# Altium footprint library ReboostV2.PcbLib: 10 footprints
Each footprint in its own frame and in the unit in brackets; x right, y up, seen from the top. Pads: shape width x height; smd on the part's side, far side on the other; paste and mask are expansions set on the pad; w line width, h text height; cw(c..) or ccw(c..) is an arc to the next point about the centre after c.
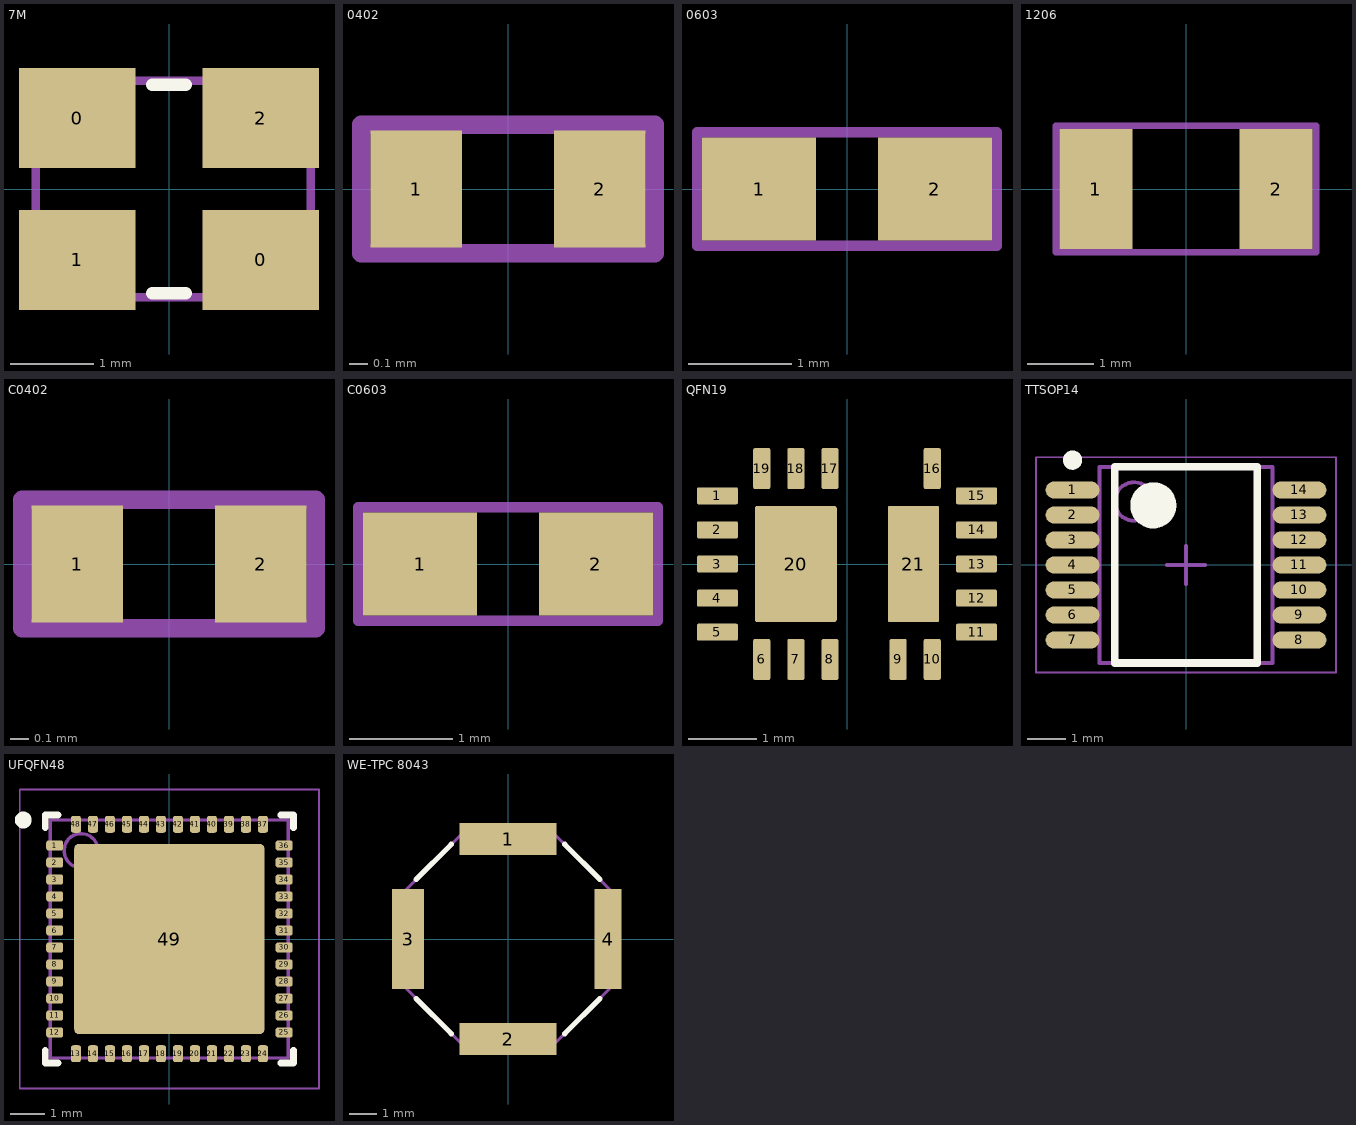
[diagram p0: the footprints below, top view; thin cyan lines are the x and y axes]

## 7M [mm]
height 0.7
pads (4):
  rect 1.4x1.2 smd: 0(-1.1,0.85) 0(1.1,-0.85) 1(-1.1,-0.85) 2(1.1,0.85)
Top Overlay:
  lines w0.15: -0.2,-1.25 0.2,-1.25 ; -0.2,1.25 0.2,1.25
Mechanical 29:
  rectangle: -1.6,-1.3 -1.2,-0.9
  lines w0.1: -1.6,-1.3 1.7,-1.3 1.7,1.3 -1.6,1.3 -1.6,-1.3
  text ".Designator" at -1.4,-0.4 h0.8
3D body "User Library-Crystal TXC Corp 7M series.step": height 0.8, standoff 0, extent -1.6,-1.3 1.7,1.3

## 0402 [mm]
pads (2):
  rect 0.5x0.635 smd: 1(-0.5,0) 2(0.5,0)
Mechanical 29:
  lines w0.1: -0.8,-0.35 -0.8,0.35 0.8,0.35 0.8,-0.35 -0.8,-0.35
  text ".Designator" at -0.8,-0.2 h0.4
3D body "User Library-d0402h025.step": height 0.25, standoff 0, extent -0.5,-0.25 0.5,0.25

## 0603 [mm]
height 1.35
pads (2):
  rect 1.1x1 smd: 1(-0.85,0) 2(0.85,0)
Mechanical 29:
  lines w0.1: -1.45,-0.55 -1.45,0.55 1.45,0.55 1.45,-0.55 -1.45,-0.55
  text ".Designator" at -1.47,-0.41 h0.8
3D body: height 0.41, standoff 0.4, extent -0.25,-0.35 0.24,0.34
3D body: height 0.4, standoff 0.05, extent -0.9,-0.4 0.9,0.4
3D body: height 0.45, standoff 0, extent 0.6,-0.45 0.95,0.45
3D body: height 0.45, standoff 0, extent -0.95,-0.45 -0.6,0.45

## 1206 [mm]
height 1.1
pads (2):
  rect 1.1x1.8 smd: 1(-1.35,0) 2(1.35,0)
Mechanical 29:
  lines w0.1: -1.95,-0.95 -1.95,0.95 1.95,0.95 1.95,-0.95 -1.95,-0.95
  text ".Designator" at -1.94,-0.34 h0.8
3D body: height 0.6, standoff 0, extent 0.95,-0.78 1.55,0.78
3D body: height 0.56, standoff 0.55, extent -0.25,-0.35 0.24,0.34
3D body: height 0.55, standoff 0.05, extent -1.54,-0.77 1.54,0.77
3D body: height 0.6, standoff 0, extent -1.55,-0.78 -0.95,0.78

## C0402 [mm]
height 1.35
pads (2):
  rect 0.5x0.635 smd: 1(-0.5,0) 2(0.5,0)
Mechanical 29:
  lines w0.1: -0.8,-0.35 -0.8,0.35 0.8,0.35 0.8,-0.35 -0.8,-0.35
  text ".Designator" at -0.8,-0.2 h0.4
3D body "User Library-cap_0402.step": height 0.5, standoff 0, extent -0.5,-0.25 0.5,0.25

## C0603 [mm]
height 1.35
pads (2):
  rect 1.1x1 smd: 1(-0.85,0) 2(0.85,0)
Mechanical 29:
  lines w0.1: -1.45,-0.55 1.45,-0.55 1.45,0.55 -1.45,0.55 -1.45,-0.55
  text ".Designator" at -1.45,-0.4 h0.8
3D body: height 0.41, standoff 0.4, extent -0.28,-0.38 0.28,0.38
3D body: height 0.45, standoff 0, extent -0.95,-0.45 -0.6,0.45
3D body: height 0.45, standoff 0, extent 0.6,-0.45 0.95,0.45
3D body: height 0.4, standoff 0.05, extent -0.9,-0.4 0.9,0.4

## QFN19 [mm] "custom QFN package for the LMG1210"
height 0.8
pads (21):
  rrect20% 0.6x0.25 smd: 1(-1.9,1) 2(-1.9,0.5) 3(-1.9,0) 4(-1.9,-0.5) 5(-1.9,-1) 11(1.9,-1) 12(1.9,-0.5) 13(1.9,0) 14(1.9,0.5) 15(1.9,1)
  rrect20% 0.25x0.6 smd: 6(-1.25,-1.4) 7(-0.75,-1.4) 8(-0.25,-1.4) 9(0.75,-1.4) 10(1.25,-1.4) 16(1.25,1.4) 17(-0.25,1.4) 18(-0.75,1.4) 19(-1.25,1.4)
  rrect5% 1.2x1.7 smd: 20(-0.75,0)
  rrect5% 0.75x1.7 smd: 21(0.975,0)
3D body: height 0.8, standoff 0.05, extent -2,-1.5 2,1.5
3D body: height 0.2, standoff 0.01, extent -1.375,1.138 -1.125,1.513
3D body: height 0.2, standoff 0.01, extent -0.875,1.138 -0.625,1.513
3D body: height 0.2, standoff 0.01, extent -0.375,1.138 -0.125,1.513
3D body: height 0.2, standoff 0.01, extent 1.125,1.138 1.375,1.513
3D body: height 0.2, standoff 0.01, extent 1.638,0.875 2.013,1.125
3D body: height 0.2, standoff 0.01, extent 1.638,0.375 2.013,0.625
3D body: height 0.2, standoff 0.01, extent 1.638,-0.125 2.013,0.125
3D body: height 0.2, standoff 0.01, extent 1.638,-0.625 2.013,-0.375
3D body: height 0.2, standoff 0.01, extent 1.638,-1.125 2.013,-0.875
3D body: height 0.2, standoff 0.01, extent 1.125,-1.513 1.375,-1.138
3D body: height 0.2, standoff 0.01, extent 0.625,-1.513 0.875,-1.138
3D body: height 0.2, standoff 0.01, extent -0.375,-1.513 -0.125,-1.138
3D body: height 0.2, standoff 0.01, extent -0.875,-1.513 -0.625,-1.138
3D body: height 0.2, standoff 0.01, extent -1.375,-1.513 -1.125,-1.138
3D body: height 0.2, standoff 0.01, extent -2.013,-1.125 -1.638,-0.875
3D body: height 0.2, standoff 0.01, extent -2.013,-0.625 -1.638,-0.375
3D body: height 0.2, standoff 0.01, extent -2.013,-0.125 -1.638,0.125
3D body: height 0.2, standoff 0.01, extent -2.013,0.375 -1.638,0.625
3D body: height 0.2, standoff 0.01, extent -2.013,0.9 -1.638,1.15
3D body: height 1.1, standoff -0.01, extent -1.5,1 -1.5,1
3D body: height 0.85, standoff 0.8, extent -1.75,0.75 -1.25,1.25

## TTSOP14 [mm] "TSOP, 14-Leads, Body 5.00x4.40mm, Pitch 0.65mm, IPC Medium Density"
height 1.2
pads (14):
  oval 1.4x0.45 smd: 1(-2.95,1.95) 2(-2.95,1.3) 3(-2.95,0.65) 4(-2.95,0) 5(-2.95,-0.65) 6(-2.95,-1.3) 7(-2.95,-1.95) 8(2.95,-1.95) 9(2.95,-1.3) 10(2.95,-0.65) 11(2.95,0) 12(2.95,0.65) 13(2.95,1.3) 14(2.95,1.95)
Top Overlay:
  circle w0.25: c-2.95,2.725 r0.125
  circle w0.6: c-0.85,1.55 r0.3
  lines w0.2: -1.85,-2.55 -1.85,2.55 1.85,2.55 1.85,-2.55 -1.85,-2.55
Mechanical 13:
  circle w0.1: c-1.35,1.65 r0.5
  lines w0.1: -2.25,-2.55 -2.25,2.55 2.25,2.55 2.25,-2.55 -2.25,-2.55
Mechanical 15:
  lines w0.05: -3.9,-2.8 -3.9,2.8 3.9,2.8 3.9,-2.8 -3.9,-2.8
  lines w0.1: -0.5,0 0.5,0 ; 0,-0.5 0,0.5
3D body: height 1.2, standoff 0.1, extent -2.25,-2.55 2.25,2.55

## UFQFN48 [mm] "QFN, 48-Leads, Body 6,95x6,95mm, Pitch 0,50mm, Thermal Pad 5,60x5,60mm, IPC Low Density"
height 0.6
pads (49):
  rrect50% 0.5x0.3 smd: 1(-3.375,2.75) 2(-3.375,2.25) 3(-3.375,1.75) 4(-3.375,1.25) 5(-3.375,0.75) 6(-3.375,0.25) 7(-3.375,-0.25) 8(-3.375,-0.75) 9(-3.375,-1.25) 10(-3.375,-1.75) 11(-3.375,-2.25) 12(-3.375,-2.75) 25(3.375,-2.75) 26(3.375,-2.25) 27(3.375,-1.75) 28(3.375,-1.25) 29(3.375,-0.75) 30(3.375,-0.25) 31(3.375,0.25) 32(3.375,0.75) 33(3.375,1.25) 34(3.375,1.75) 35(3.375,2.25) 36(3.375,2.75)
  rrect50% 0.3x0.5 smd: 13(-2.75,-3.375) 14(-2.25,-3.375) 15(-1.75,-3.375) 16(-1.25,-3.375) 17(-0.75,-3.375) 18(-0.25,-3.375) 19(0.25,-3.375) 20(0.75,-3.375) 21(1.25,-3.375) 22(1.75,-3.375) 23(2.25,-3.375) 24(2.75,-3.375) 37(2.75,3.375) 38(2.25,3.375) 39(1.75,3.375) 40(1.25,3.375) 41(0.75,3.375) 42(0.25,3.375) 43(-0.25,3.375) 44(-0.75,3.375) 45(-1.25,3.375) 46(-1.75,3.375) 47(-2.25,3.375) 48(-2.75,3.375)
  rrect5% 5.6x5.6 smd: 49(0,0)
Top Overlay:
  circle w0.25: c-4.3,3.5 r0.125
  lines w0.2: -3.65,-3.275 -3.65,-3.65 -3.275,-3.65 ; -3.65,3.275 -3.65,3.65 -3.275,3.65 ; 3.275,-3.65 3.65,-3.65 3.65,-3.275 ; 3.275,3.65 3.65,3.65 3.65,3.275
Mechanical 13:
  circle w0.1: c-2.6,2.6 r0.5
  lines w0.1: -3.5,-3.5 -3.5,3.5 3.5,3.5 3.5,-3.5 -3.5,-3.5
Mechanical 15:
  lines w0.05: -4.4,-4.4 -4.4,4.4 4.4,4.4 4.4,-4.4 -4.4,-4.4
  lines w0.1: -0.5,0 0.5,0 ; 0,-0.5 0,0.5
3D body: height 0.6, standoff 0, extent -3.5,-3.5 3.5,3.5

## WE-TPC 8043 [mm] "SMD Inductor, 2-Leads, Body 8x8mm"
height 4.3
pads (4):
  rect 3.6x1.2 smd: 1(0,3.7) 2(0,-3.7)
  rect 1.2x3.7 smd: 3(-3.7,0)
  rect 1x3.7 smd: 4(3.7,0)
Top Overlay:
  lines w0.2: -3.4,-2.2 -2.1,-3.5 ; -3.4,2.2 -2.1,3.5 ; 2.1,-3.5 3.4,-2.2 ; 2.1,3.5 3.4,2.2
Mechanical 1:
  lines w0.1: -4,-1.6 -1.6,-4 1.6,-4 4,-1.6 4,1.6 1.6,4 -1.6,4 -4,1.6 -4,-1.6
Mechanical 29:
  lines w0.1: -4,-1.6 -4,1.6 -1.6,4 1.6,4 4,1.6 4,-1.6 1.6,-4 -1.6,-4 -4,-1.6
  text ".Designator" at -3.6,-0.4 h1
3D body "Download_STP_WE-TPC-8043.stp": height 4.31, standoff 0.01, extent -4,-4 4,4